# EAGLE library part IC_NE555 (library SMD-Components_E950)
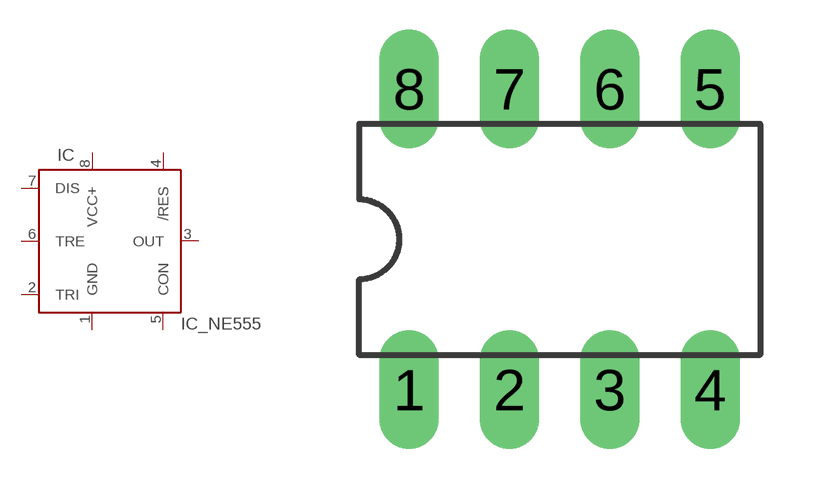
[diagram p0: symbol with the pads of DIP-8_PIN; footprint DIP-8_PIN]

Designator prefix IC

## IC_NE555DIP  [DIP-8_PIN]
1  GND  pwr
2  TRI  in
3  OUT  out
4  /RES  in
5  CON  in
6  TRE  in
7  DIS  in
8  VCC+  pwr

## Footprint DIP-8_PIN (pad centres in mm)
Dual In Line Package
drill 1 pad 1.27 long: 1 -3.81,-3.81; 2 -1.27,-3.81; 3 1.27,-3.81; 4 3.81,-3.81; 5 3.81,3.81; 6 1.27,3.81; 7 -1.27,3.81; 8 -3.81,3.81